# EAGLE library part PROTOSPACE (library parts)
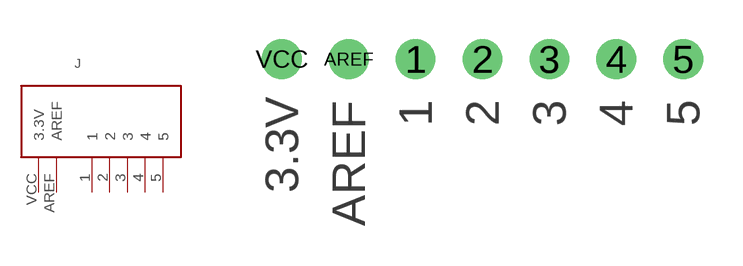
[diagram p5: symbol with the pads of PROTOSPACE; footprint PROTOSPACE]

Designator prefix J

## PROTOSPACE  [PROTOSPACE]
1  1
2  2
3  3
4  4
5  5
AREF  AREF
VCC  3.3V

## Footprint PROTOSPACE (pad centres in mm)
drill 1 round: 1 -2.54,0; 2 0,0; 3 2.54,0; 4 5.08,0; 5 7.62,0; AREF -5.08,0; VCC -7.62,0